# Altium integrated library Atmel Memory EEPROM.IntLib: 165 symbols (part 1 of 5)
Pins are listed as number, name and electrical type; pins without a type are passive.

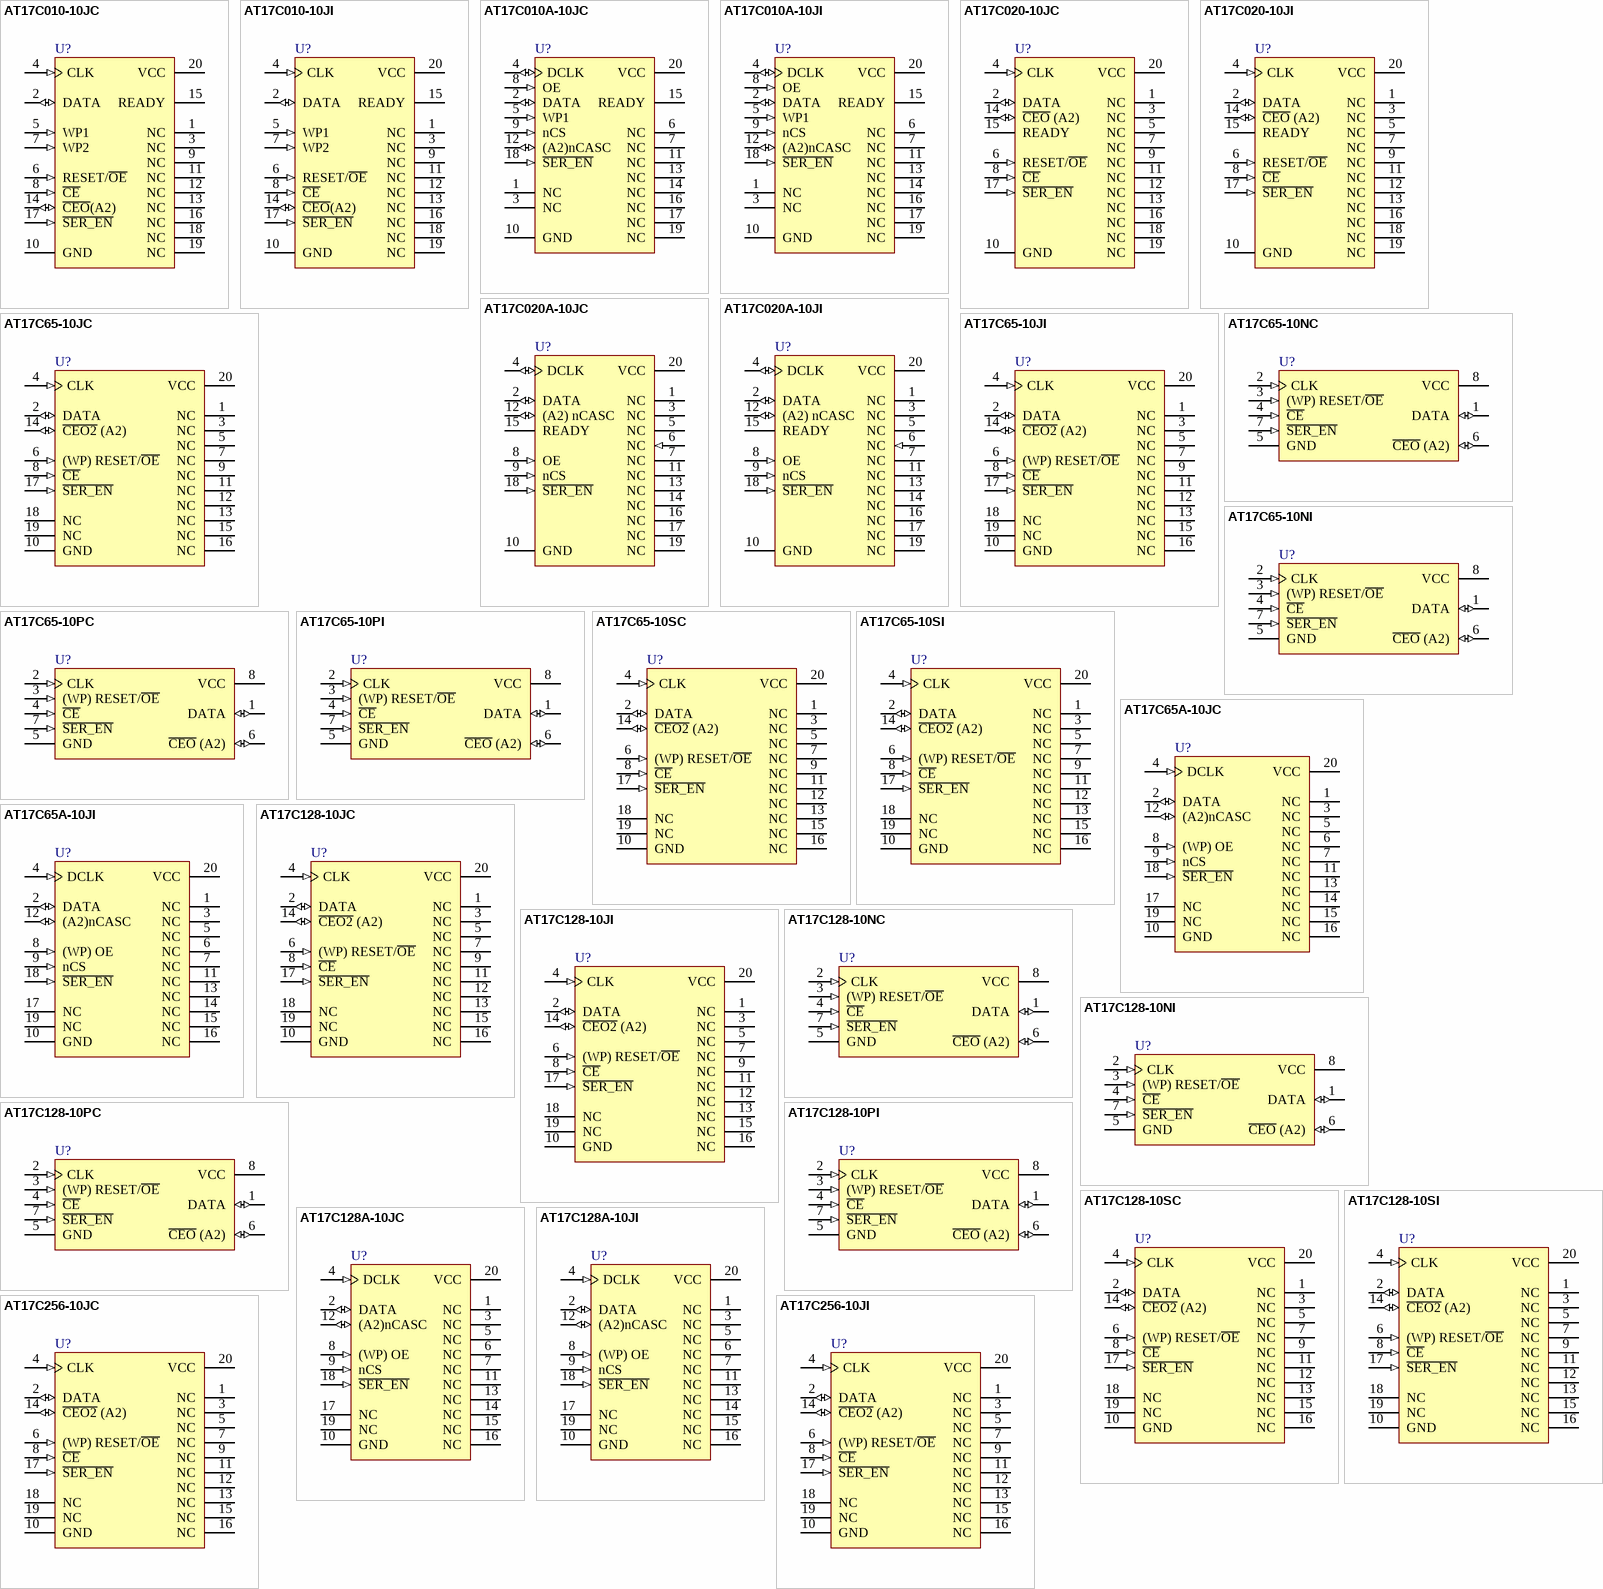
[diagram p0: symbols AT17C010-10JC to AT17C256-10JI]

## AT17C010-10JC
designator U?
FPGA Configuration EEPROM 1M Memory; ComponentAvailability: Not Recommended for New Design; Published: 17-Jul-2002; LatestRevisionDate: 13-Apr-2006; LatestRevisionNote: IPC-7351 Footprint Added.; DatasheetVersion: Rev. 0944B-07/99; PackageVersion: Aug-1999; PackageReference: 20J; Publisher: Altium Limited; PackageDescription: 20-Pin Leaded Chip Carrier 1.27 mm Pitch; Supplier 1: Digi-Key; Supplier Part Number 1: AT17C010-10JC-ND; Supplier 2: Mouser; Supplier Part Number 2: 556-AT17C01010JC; Code_JEDEC: MS-018-AA; Code_IPC: PLCC-20; ComponentLink1Description: Manufacturer Link; ComponentLink1URL: http://www.atmel.com/products/Config; ComponentLink2Description: Atmel.com Home; ComponentLink2URL: http://www.atmel.com
footprint 20J_N (Leaded Chip Carrier, 20-Leads, Body 9x9mm, Pitch 1.27mm, IPC Medium Density)
footprint 20J_L (Leaded Chip Carrier, 20-Leads, Body 9x9mm, Pitch 1.27mm, IPC High Density)
footprint 20J_M (Leaded Chip Carrier, 20-Leads, Body 9x9mm, Pitch 1.27mm, IPC Low Density)
pins: 1 NC, 2 DATA (io), 3 NC, 4 CLK (in), 5 WP1 (in), 6 RESET/~{OE} (in), 7 WP2 (in), 8 ~{CE} (in), 9 NC, 10 GND (power), 11 NC, 12 NC, 13 NC, 14 ~{CEO}(A2) (io), 15 READY (oc), 16 NC, 17 ~{SER_EN} (in), 18 NC, 19 NC, 20 VCC (power)

## AT17C010-10JI
designator U?
FPGA Configuration EEPROM 1M Memory; ComponentAvailability: Not Recommended for New Design; Published: 17-Jul-2002; LatestRevisionDate: 13-Apr-2006; LatestRevisionNote: IPC-7351 Footprint Added.; DatasheetVersion: Rev. 0944B-07/99; PackageVersion: Aug-1999; PackageReference: 20J; Publisher: Altium Limited; PackageDescription: 20-Pin Leaded Chip Carrier 1.27 mm Pitch; Supplier 1: Digi-Key; Supplier Part Number 1: AT17C010-10JI-ND; Code_JEDEC: MS-018-AA; Code_IPC: PLCC-20; ComponentLink1Description: Manufacturer Link; ComponentLink1URL: http://www.atmel.com/products/Config; ComponentLink2Description: Atmel.com Home; ComponentLink2URL: http://www.atmel.com
footprint 20J_N (Leaded Chip Carrier, 20-Leads, Body 9x9mm, Pitch 1.27mm, IPC Medium Density)
footprint 20J_L (Leaded Chip Carrier, 20-Leads, Body 9x9mm, Pitch 1.27mm, IPC High Density)
footprint 20J_M (Leaded Chip Carrier, 20-Leads, Body 9x9mm, Pitch 1.27mm, IPC Low Density)
pins: 1 NC, 2 DATA (io), 3 NC, 4 CLK (in), 5 WP1 (in), 6 RESET/~{OE} (in), 7 WP2 (in), 8 ~{CE} (in), 9 NC, 10 GND (power), 11 NC, 12 NC, 13 NC, 14 ~{CEO}(A2) (io), 15 READY (oc), 16 NC, 17 ~{SER_EN} (in), 18 NC, 19 NC, 20 VCC (power)

## AT17C010A-10JC
designator U?
FPGA Configuration EEPROM  1M Memory; ComponentAvailability: Not Recommended for New Design; Published: 17-Jul-2002; LatestRevisionDate: 13-Apr-2006; LatestRevisionNote: IPC-7351 Footprint Added.; DatasheetVersion: Rev. 0974B-07/99; PackageVersion: Aug-1999; PackageReference: 20J; Publisher: Altium Limited; PackageDescription: 20-Pin Leaded Chip Carrier 1.27 mm Pitch; Supplier 1: Digi-Key; Supplier Part Number 1: AT17C010A-10JC-ND; Code_JEDEC: MS-018-AA; Code_IPC: PLCC-20; ComponentLink1Description: Manufacturer Link; ComponentLink1URL: http://www.atmel.com/products/Config; ComponentLink2Description: Atmel.com Home; ComponentLink2URL: http://www.atmel.com
footprint 20J_N (Leaded Chip Carrier, 20-Leads, Body 9x9mm, Pitch 1.27mm, IPC Medium Density)
footprint 20J_L (Leaded Chip Carrier, 20-Leads, Body 9x9mm, Pitch 1.27mm, IPC High Density)
footprint 20J_M (Leaded Chip Carrier, 20-Leads, Body 9x9mm, Pitch 1.27mm, IPC Low Density)
pins: 1 NC, 2 DATA (io), 3 NC, 4 DCLK (io), 5 WP1 (in), 6 NC, 7 NC, 8 OE (in), 9 nCS (in), 10 GND (power), 11 NC, 12 (A2)nCASC (io), 13 NC, 14 NC, 15 READY (oc), 16 NC, 17 NC, 18 ~{SER_EN} (in), 19 NC, 20 VCC (power)

## AT17C010A-10JI
designator U?
FPGA Configuration EEPROM  1M Memory; ComponentAvailability: Not Recommended for New Design; Published: 17-Jul-2002; LatestRevisionDate: 13-Apr-2006; LatestRevisionNote: IPC-7351 Footprint Added.; DatasheetVersion: Rev. 0974B-07/99; PackageVersion: Aug-1999; PackageReference: 20J; Publisher: Altium Limited; PackageDescription: 20-Pin Leaded Chip Carrier 1.27 mm Pitch; Supplier 1: Digi-Key; Supplier Part Number 1: AT17C010A-10JI-ND; Code_JEDEC: MS-018-AA; Code_IPC: PLCC-20; ComponentLink1Description: Manufacturer Link; ComponentLink1URL: http://www.atmel.com/products/Config; ComponentLink2Description: Atmel.com Home; ComponentLink2URL: http://www.atmel.com
footprint 20J_N (Leaded Chip Carrier, 20-Leads, Body 9x9mm, Pitch 1.27mm, IPC Medium Density)
footprint 20J_L (Leaded Chip Carrier, 20-Leads, Body 9x9mm, Pitch 1.27mm, IPC High Density)
footprint 20J_M (Leaded Chip Carrier, 20-Leads, Body 9x9mm, Pitch 1.27mm, IPC Low Density)
pins: 1 NC, 2 DATA (io), 3 NC, 4 DCLK (io), 5 WP1 (in), 6 NC, 7 NC, 8 OE (in), 9 nCS (in), 10 GND (power), 11 NC, 12 (A2)nCASC (io), 13 NC, 14 NC, 15 READY (oc), 16 NC, 17 NC, 18 ~{SER_EN} (in), 19 NC, 20 VCC (power)

## AT17C020-10JC
designator U?
FPGA Configuration EEPROM 2M Memory; ComponentAvailability: Not Recommended for New Design; Published: 17-Jul-2002; LatestRevisionDate: 13-Apr-2006; LatestRevisionNote: IPC-7351 Footprint Added.; DatasheetVersion: Rev. 1239B-05/99; PackageVersion: Aug-1999; PackageReference: 20J; Publisher: Altium Limited; PackageDescription: 20-Pin Leaded Chip Carrier 1.27 mm Pitch; Supplier 1: Digi-Key; Supplier Part Number 1: AT17C020-10JC-ND; Code_JEDEC: MS-018-AA; Code_IPC: PLCC-20; ComponentLink1Description: Manufacturer Link; ComponentLink1URL: http://www.atmel.com/products/Config; ComponentLink2Description: Atmel.com Home; ComponentLink2URL: http://www.atmel.com
footprint 20J_N (Leaded Chip Carrier, 20-Leads, Body 9x9mm, Pitch 1.27mm, IPC Medium Density)
footprint 20J_L (Leaded Chip Carrier, 20-Leads, Body 9x9mm, Pitch 1.27mm, IPC High Density)
footprint 20J_M (Leaded Chip Carrier, 20-Leads, Body 9x9mm, Pitch 1.27mm, IPC Low Density)
pins: 1 NC, 2 DATA (io), 3 NC, 4 CLK (in), 5 NC, 6 RESET/~{OE} (in), 7 NC, 8 ~{CE} (in), 9 NC, 10 GND (power), 11 NC, 12 NC, 13 NC, 14 ~{CEO} (A2) (io), 15 READY (oc), 16 NC, 17 ~{SER_EN} (in), 18 NC, 19 NC, 20 VCC (power)

## AT17C020-10JI
designator U?
FPGA Configuration EEPROM 2M Memory; ComponentAvailability: Not Recommended for New Design; Published: 17-Jul-2002; LatestRevisionDate: 13-Apr-2006; LatestRevisionNote: IPC-7351 Footprint Added.; DatasheetVersion: Rev. 1239B-05/99; PackageVersion: Aug-1999; PackageReference: 20J; Publisher: Altium Limited; PackageDescription: 20-Pin Leaded Chip Carrier 1.27 mm Pitch; Supplier 1: Digi-Key; Supplier Part Number 1: AT17C020-10JI-ND; Code_JEDEC: MS-018-AA; Code_IPC: PLCC-20; ComponentLink1Description: Manufacturer Link; ComponentLink1URL: http://www.atmel.com/products/Config; ComponentLink2Description: Atmel.com Home; ComponentLink2URL: http://www.atmel.com
footprint 20J_N (Leaded Chip Carrier, 20-Leads, Body 9x9mm, Pitch 1.27mm, IPC Medium Density)
footprint 20J_L (Leaded Chip Carrier, 20-Leads, Body 9x9mm, Pitch 1.27mm, IPC High Density)
footprint 20J_M (Leaded Chip Carrier, 20-Leads, Body 9x9mm, Pitch 1.27mm, IPC Low Density)
pins: 1 NC, 2 DATA (io), 3 NC, 4 CLK (in), 5 NC, 6 RESET/~{OE} (in), 7 NC, 8 ~{CE} (in), 9 NC, 10 GND (power), 11 NC, 12 NC, 13 NC, 14 ~{CEO} (A2) (io), 15 READY (oc), 16 NC, 17 ~{SER_EN} (in), 18 NC, 19 NC, 20 VCC (power)

## AT17C020A-10JC
designator U?
FPGA Configuration EEPROM 2M Memory; ComponentAvailability: Not Recommended for New Design; Published: 17-Jul-2002; LatestRevisionDate: 13-Apr-2006; LatestRevisionNote: IPC-7351 Footprint Added.; DatasheetVersion: Rev. 1270A-05/00; PackageVersion: Aug-1999; PackageReference: 20J; Publisher: Altium Limited; PackageDescription: 20-Pin Leaded Chip Carrier 1.27 mm Pitch; Supplier 1: Digi-Key; Supplier Part Number 1: AT17C020A-10JC-ND; Code_JEDEC: MS-018-AA; Code_IPC: PLCC-20; ComponentLink1Description: Manufacturer Link; ComponentLink1URL: http://www.atmel.com/products/Config; ComponentLink2Description: Atmel.com Home; ComponentLink2URL: http://www.atmel.com
footprint 20J_N (Leaded Chip Carrier, 20-Leads, Body 9x9mm, Pitch 1.27mm, IPC Medium Density)
footprint 20J_L (Leaded Chip Carrier, 20-Leads, Body 9x9mm, Pitch 1.27mm, IPC High Density)
footprint 20J_M (Leaded Chip Carrier, 20-Leads, Body 9x9mm, Pitch 1.27mm, IPC Low Density)
pins: 1 NC, 2 DATA (io), 3 NC, 4 DCLK (io), 5 NC, 6 NC (in), 7 NC, 8 OE (in), 9 nCS (in), 10 GND (power), 11 NC, 12 (A2) nCASC (io), 13 NC, 14 NC, 15 READY (oc), 16 NC, 17 NC, 18 ~{SER_EN} (in), 19 NC, 20 VCC (power)

## AT17C020A-10JI
designator U?
FPGA Configuration EEPROM 2M Memory; ComponentAvailability: Not Recommended for New Design; Published: 17-Jul-2002; LatestRevisionDate: 13-Apr-2006; LatestRevisionNote: IPC-7351 Footprint Added.; DatasheetVersion: Rev. 1270A-05/00; PackageVersion: Aug-1999; PackageReference: 20J; Publisher: Altium Limited; PackageDescription: 20-Pin Leaded Chip Carrier 1.27 mm Pitch; Supplier 1: Digi-Key; Supplier Part Number 1: AT17C020A-10JI-ND; Code_JEDEC: MS-018-AA; Code_IPC: PLCC-20; ComponentLink1Description: Manufacturer Link; ComponentLink1URL: http://www.atmel.com/products/Config; ComponentLink2Description: Atmel.com Home; ComponentLink2URL: http://www.atmel.com
footprint 20J_N (Leaded Chip Carrier, 20-Leads, Body 9x9mm, Pitch 1.27mm, IPC Medium Density)
footprint 20J_L (Leaded Chip Carrier, 20-Leads, Body 9x9mm, Pitch 1.27mm, IPC High Density)
footprint 20J_M (Leaded Chip Carrier, 20-Leads, Body 9x9mm, Pitch 1.27mm, IPC Low Density)
pins: 1 NC, 2 DATA (io), 3 NC, 4 DCLK (io), 5 NC, 6 NC (in), 7 NC, 8 OE (in), 9 nCS (in), 10 GND (power), 11 NC, 12 (A2) nCASC (io), 13 NC, 14 NC, 15 READY (oc), 16 NC, 17 NC, 18 ~{SER_EN} (in), 19 NC, 20 VCC (power)

## AT17C65-10JC
designator U?
FPGA Configuration EEPROM 64K Memory; ComponentAvailability: Not Recommended for New Design; Published: 17-Jul-2002; LatestRevisionDate: 13-Apr-2006; LatestRevisionNote: IPC-7351 Footprint Added.; DatasheetVersion: Rev. 1636B-05/00; PackageVersion: Aug-1999; PackageReference: 20J; Publisher: Altium Limited; PackageDescription: 20-Pin Leaded Chip Carrier 1.27 mm Pitch; Supplier 1: Digi-Key; Supplier Part Number 1: AT17C65-10JC-ND; Supplier 2: Mouser; Supplier Part Number 2: 556-AT17C6510JC; Code_JEDEC: MS-018-AA; Code_IPC: PLCC-20; ComponentLink1Description: Manufacturer Link; ComponentLink1URL: http://www.atmel.com/products/Config; ComponentLink2Description: Atmel.com Home; ComponentLink2URL: http://www.atmel.com
footprint 20J_N (Leaded Chip Carrier, 20-Leads, Body 9x9mm, Pitch 1.27mm, IPC Medium Density)
footprint 20J_L (Leaded Chip Carrier, 20-Leads, Body 9x9mm, Pitch 1.27mm, IPC High Density)
footprint 20J_M (Leaded Chip Carrier, 20-Leads, Body 9x9mm, Pitch 1.27mm, IPC Low Density)
pins: 1 NC, 2 DATA (io), 3 NC, 4 CLK (in), 5 NC, 6 (WP) RESET/~{OE} (in), 7 NC, 8 ~{CE} (in), 9 NC, 10 GND (power), 11 NC, 12 NC, 13 NC, 14 ~{CEO2} (A2) (io), 15 NC, 16 NC, 17 ~{SER_EN} (in), 18 NC, 19 NC, 20 VCC (power)

## AT17C65-10JI
designator U?
FPGA Configuration EEPROM 64K Memory; ComponentAvailability: Not Recommended for New Design; Published: 17-Jul-2002; LatestRevisionDate: 13-Apr-2006; LatestRevisionNote: IPC-7351 Footprint Added.; DatasheetVersion: Rev. 1636B-05/00; PackageVersion: Aug-1999; PackageReference: 20J; Publisher: Altium Limited; PackageDescription: 20-Pin Leaded Chip Carrier 1.27 mm Pitch; Supplier 1: Digi-Key; Supplier Part Number 1: AT17C65-10JI-ND; Supplier 2: Mouser; Supplier Part Number 2: 556-AT17C65-10JI; Code_JEDEC: MS-018-AA; Code_IPC: PLCC-20; ComponentLink1Description: Manufacturer Link; ComponentLink1URL: http://www.atmel.com/products/Config; ComponentLink2Description: Atmel.com Home; ComponentLink2URL: http://www.atmel.com
footprint 20J_N (Leaded Chip Carrier, 20-Leads, Body 9x9mm, Pitch 1.27mm, IPC Medium Density)
footprint 20J_L (Leaded Chip Carrier, 20-Leads, Body 9x9mm, Pitch 1.27mm, IPC High Density)
footprint 20J_M (Leaded Chip Carrier, 20-Leads, Body 9x9mm, Pitch 1.27mm, IPC Low Density)
pins: 1 NC, 2 DATA (io), 3 NC, 4 CLK (in), 5 NC, 6 (WP) RESET/~{OE} (in), 7 NC, 8 ~{CE} (in), 9 NC, 10 GND (power), 11 NC, 12 NC, 13 NC, 14 ~{CEO2} (A2) (io), 15 NC, 16 NC, 17 ~{SER_EN} (in), 18 NC, 19 NC, 20 VCC (power)

## AT17C65-10NC
designator U?
FPGA Configuration EEPROM 64K Memory; ComponentAvailability: Not Recommended for New Design; Published: 17-Jul-2002; LatestRevisionDate: 13-Apr-2006; LatestRevisionNote: IPC-7351 Footprint Added.; DatasheetVersion: Rev. 1636B-05/00; PackageVersion: revC, Mar-2005; PackageReference: 8S1; Publisher: Altium Limited; PackageDescription: 8-Lead (0.150" Wide Body), Plastic Gull Wing Small Outline (JEDEC SOIC); Supplier 1: Digi-Key; Supplier Part Number 1: AT17C65-10NC-ND; Supplier 2: Mouser; Supplier Part Number 2: 556-AT17C65-10NC; Code_JEDEC: MS-012-AA; Code_IPC: SOIC127P600-8; ComponentLink1Description: Manufacturer Link; ComponentLink1URL: http://www.atmel.com/products/Config; ComponentLink2Description: Atmel.com Home; ComponentLink2URL: http://www.atmel.com
footprint 8S1_N (SOIC, 8-Leads, Body 4.9x3.9mm, Pitch 1.27mm, IPC Medium Density)
footprint 8S1_L (SOIC, 8-Leads, Body 4.9x3.9mm, Pitch 1.27mm, IPC High Density)
footprint 8S1_M (SOIC, 8-Leads, Body 4.9x3.9mm, Pitch 1.27mm, IPC Low Density)
pins: 1 DATA (io), 2 CLK (in), 3 (WP) RESET/~{OE} (in), 4 ~{CE} (in), 5 GND (power), 6 ~{CEO} (A2) (io), 7 ~{SER_EN} (in), 8 VCC (power)

## AT17C65-10NI
designator U?
FPGA Configuration EEPROM 64K Memory; ComponentAvailability: Not Recommended for New Design; Published: 17-Jul-2002; LatestRevisionDate: 13-Apr-2006; LatestRevisionNote: IPC-7351 Footprint Added.; DatasheetVersion: Rev. 1636B-05/00; PackageVersion: revC, Mar-2005; PackageReference: 8S1; Publisher: Altium Limited; PackageDescription: 8-Lead (0.150" Wide Body), Plastic Gull Wing Small Outline (JEDEC SOIC); Supplier 1: Digi-Key; Supplier Part Number 1: AT17C65-10NI-ND; Supplier 2: Mouser; Supplier Part Number 2: 556-AT17C65-10NI; Code_JEDEC: MS-012-AA; Code_IPC: SOIC127P600-8; ComponentLink1Description: Manufacturer Link; ComponentLink1URL: http://www.atmel.com/products/Config; ComponentLink2Description: Atmel.com Home; ComponentLink2URL: http://www.atmel.com
footprint 8S1_N (SOIC, 8-Leads, Body 4.9x3.9mm, Pitch 1.27mm, IPC Medium Density)
footprint 8S1_L (SOIC, 8-Leads, Body 4.9x3.9mm, Pitch 1.27mm, IPC High Density)
footprint 8S1_M (SOIC, 8-Leads, Body 4.9x3.9mm, Pitch 1.27mm, IPC Low Density)
pins: 1 DATA (io), 2 CLK (in), 3 (WP) RESET/~{OE} (in), 4 ~{CE} (in), 5 GND (power), 6 ~{CEO} (A2) (io), 7 ~{SER_EN} (in), 8 VCC (power)

## AT17C65-10PC
designator U?
FPGA Configuration EEPROM 64K Memory; ComponentAvailability: Not Recommended for New Design; Published: 17-Jul-2002; LatestRevisionDate: 04-Mar-2005; LatestRevisionNote: Stylized 3D Model Added.; DatasheetVersion: Rev. 1636B-05/00; PackageVersion: revB, Jan-2002; PackageReference: 8P3; Publisher: Altium Limited; PackageDescription: 8-Lead, 0.300" Wide Body, Plastic Dual In-Line Package (PDIP); Supplier 1: Digi-Key; Supplier Part Number 1: AT17C65-10PC-ND; Supplier 2: Mouser; Supplier Part Number 2: 556-AT17C6510PC; Code_JEDEC: MS-001-BA; ComponentLink1Description: Manufacturer Link; ComponentLink1URL: http://www.atmel.com/products/Config; ComponentLink2Description: Atmel.com Home; ComponentLink2URL: http://www.atmel.com
footprint 8P3 (DIP, 8-Leads, Row Spacing 7.62mm, Pitch 2.54mm, Body 9.59x6.61mm)
pins: 1 DATA (io), 2 CLK (in), 3 (WP) RESET/~{OE} (in), 4 ~{CE} (in), 5 GND (power), 6 ~{CEO} (A2) (io), 7 ~{SER_EN} (in), 8 VCC (power)

## AT17C65-10PI
designator U?
FPGA Configuration EEPROM 64K Memory; ComponentAvailability: Not Recommended for New Design; Published: 17-Jul-2002; LatestRevisionDate: 04-Mar-2005; LatestRevisionNote: Stylized 3D Model Added.; DatasheetVersion: Rev. 1636B-05/00; PackageVersion: revB, Jan-2002; PackageReference: 8P3; Publisher: Altium Limited; PackageDescription: 8-Lead, 0.300" Wide Body, Plastic Dual In-Line Package (PDIP); Supplier 1: Digi-Key; Supplier Part Number 1: AT17C65-10PI-ND; Supplier 2: Mouser; Supplier Part Number 2: 556-AT17C65-10PI; Code_JEDEC: MS-001-BA; ComponentLink1Description: Manufacturer Link; ComponentLink1URL: http://www.atmel.com/products/Config; ComponentLink2Description: Atmel.com Home; ComponentLink2URL: http://www.atmel.com
footprint 8P3 (DIP, 8-Leads, Row Spacing 7.62mm, Pitch 2.54mm, Body 9.59x6.61mm)
pins: 1 DATA (io), 2 CLK (in), 3 (WP) RESET/~{OE} (in), 4 ~{CE} (in), 5 GND (power), 6 ~{CEO} (A2) (io), 7 ~{SER_EN} (in), 8 VCC (power)

## AT17C65-10SC
designator U?
FPGA Configuration EEPROM 64K Memory; ComponentAvailability: Not Recommended for New Design; Published: 17-Jul-2002; LatestRevisionDate: 13-Apr-2006; LatestRevisionNote: IPC-7351 Footprint Added.; DatasheetVersion: Rev. 1636B-05/00; PackageVersion: revA, Jan-2002; PackageReference: 20S; Publisher: Altium Limited; PackageDescription: 20-lead, 0.300" Wide Body, Plastic Gull Wing Small Outline Package (SOIC); Supplier 1: Digi-Key; Supplier Part Number 1: AT17C65-10SC-ND; Code_JEDEC: MS-013-AC; Code_IPC: SOIC127P1030-20; ComponentLink1Description: Manufacturer Link; ComponentLink1URL: http://www.atmel.com/products/Config; ComponentLink2Description: Atmel.com Home; ComponentLink2URL: http://www.atmel.com
footprint 20S_N (SOIC, 20-Leads, Body 12.8x7.5mm, Pitch 1.27mm, IPC Medium Density)
footprint 20S_L (SOIC, 20-Leads, Body 12.8x7.5mm, Pitch 1.27mm, IPC High Density)
footprint 20S_M (SOIC, 20-Leads, Body 12.8x7.5mm, Pitch 1.27mm, IPC Low Density)
pins: 1 NC, 2 DATA (io), 3 NC, 4 CLK (in), 5 NC, 6 (WP) RESET/~{OE} (in), 7 NC, 8 ~{CE} (in), 9 NC, 10 GND (power), 11 NC, 12 NC, 13 NC, 14 ~{CEO2} (A2) (io), 15 NC, 16 NC, 17 ~{SER_EN} (in), 18 NC, 19 NC, 20 VCC (power)

## AT17C65-10SI
designator U?
FPGA Configuration EEPROM 64K Memory; ComponentAvailability: Not Recommended for New Design; Published: 17-Jul-2002; LatestRevisionDate: 13-Apr-2006; LatestRevisionNote: IPC-7351 Footprint Added.; DatasheetVersion: Rev. 1636B-05/00; PackageVersion: revA, Jan-2002; PackageReference: 20S; Publisher: Altium Limited; PackageDescription: 20-lead, 0.300" Wide Body, Plastic Gull Wing Small Outline Package (SOIC); Supplier 1: Digi-Key; Supplier Part Number 1: AT17C65-10SI-ND; Supplier 2: Mouser; Supplier Part Number 2: 556-AT17C65-10SI; Code_JEDEC: MS-013-AC; Code_IPC: SOIC127P1030-20; ComponentLink1Description: Manufacturer Link; ComponentLink1URL: http://www.atmel.com/products/Config; ComponentLink2Description: Atmel.com Home; ComponentLink2URL: http://www.atmel.com
footprint 20S_N (SOIC, 20-Leads, Body 12.8x7.5mm, Pitch 1.27mm, IPC Medium Density)
footprint 20S_L (SOIC, 20-Leads, Body 12.8x7.5mm, Pitch 1.27mm, IPC High Density)
footprint 20S_M (SOIC, 20-Leads, Body 12.8x7.5mm, Pitch 1.27mm, IPC Low Density)
pins: 1 NC, 2 DATA (io), 3 NC, 4 CLK (in), 5 NC, 6 (WP) RESET/~{OE} (in), 7 NC, 8 ~{CE} (in), 9 NC, 10 GND (power), 11 NC, 12 NC, 13 NC, 14 ~{CEO2} (A2) (io), 15 NC, 16 NC, 17 ~{SER_EN} (in), 18 NC, 19 NC, 20 VCC (power)

## AT17C65A-10JC
designator U?
FPGA Configuration EEPROM 64K Memory; ComponentAvailability: Not Recommended for New Design; Published: 17-Jul-2002; LatestRevisionDate: 13-Apr-2006; LatestRevisionNote: IPC-7351 Footprint Added.; DatasheetVersion: Rev. 0996B-10/99; PackageVersion: Aug-1999; PackageReference: 20J; Publisher: Altium Limited; PackageDescription: 20-Pin Leaded Chip Carrier 1.27 mm Pitch; Supplier 1: Digi-Key; Supplier Part Number 1: AT17C65A-10JC-ND; Code_JEDEC: MS-018-AA; Code_IPC: PLCC-20; ComponentLink1Description: Manufacturer Link; ComponentLink1URL: http://www.atmel.com/products/Config; ComponentLink2Description: Atmel.com Home; ComponentLink2URL: http://www.atmel.com
footprint 20J_N (Leaded Chip Carrier, 20-Leads, Body 9x9mm, Pitch 1.27mm, IPC Medium Density)
footprint 20J_L (Leaded Chip Carrier, 20-Leads, Body 9x9mm, Pitch 1.27mm, IPC High Density)
footprint 20J_M (Leaded Chip Carrier, 20-Leads, Body 9x9mm, Pitch 1.27mm, IPC Low Density)
pins: 1 NC, 2 DATA (io), 3 NC, 4 DCLK (in), 5 NC, 6 NC, 7 NC, 8 (WP) OE (in), 9 nCS (in), 10 GND (power), 11 NC, 12 (A2)nCASC (io), 13 NC, 14 NC, 15 NC, 16 NC, 17 NC, 18 ~{SER_EN} (in), 19 NC, 20 VCC (power)

## AT17C65A-10JI
designator U?
FPGA Configuration EEPROM 64K Memory; ComponentAvailability: Not Recommended for New Design; Published: 17-Jul-2002; LatestRevisionDate: 13-Apr-2006; LatestRevisionNote: IPC-7351 Footprint Added.; DatasheetVersion: Rev. 0996B-10/99; PackageVersion: Aug-1999; PackageReference: 20J; Publisher: Altium Limited; PackageDescription: 20-Pin Leaded Chip Carrier 1.27 mm Pitch; Supplier 1: Digi-Key; Supplier Part Number 1: AT17C65A-10JI-ND; Supplier 2: Mouser; Supplier Part Number 2: 556-AT17C65A-10JI; Code_JEDEC: MS-018-AA; Code_IPC: PLCC-20; ComponentLink1Description: Manufacturer Link; ComponentLink1URL: http://www.atmel.com/products/Config; ComponentLink2Description: Atmel.com Home; ComponentLink2URL: http://www.atmel.com
footprint 20J_N (Leaded Chip Carrier, 20-Leads, Body 9x9mm, Pitch 1.27mm, IPC Medium Density)
footprint 20J_L (Leaded Chip Carrier, 20-Leads, Body 9x9mm, Pitch 1.27mm, IPC High Density)
footprint 20J_M (Leaded Chip Carrier, 20-Leads, Body 9x9mm, Pitch 1.27mm, IPC Low Density)
pins: 1 NC, 2 DATA (io), 3 NC, 4 DCLK (in), 5 NC, 6 NC, 7 NC, 8 (WP) OE (in), 9 nCS (in), 10 GND (power), 11 NC, 12 (A2)nCASC (io), 13 NC, 14 NC, 15 NC, 16 NC, 17 NC, 18 ~{SER_EN} (in), 19 NC, 20 VCC (power)

## AT17C128-10JC
designator U?
FPGA Configuration EEPROM 128K Memory; ComponentAvailability: Not Recommended for New Design; Published: 17-Jul-2002; LatestRevisionDate: 13-Apr-2006; LatestRevisionNote: IPC-7351 Footprint Added.; DatasheetVersion: Rev. 1636B-05/00; PackageVersion: Aug-1999; PackageReference: 20J; Publisher: Altium Limited; PackageDescription: 20-Pin Leaded Chip Carrier 1.27 mm Pitch; Supplier 1: Digi-Key; Supplier Part Number 1: AT17C128-10JC-ND; Supplier 2: Mouser; Supplier Part Number 2: 556-AT17C12810JC; Code_JEDEC: MS-018-AA; Code_IPC: PLCC-20; ComponentLink1Description: Manufacturer Link; ComponentLink1URL: http://www.atmel.com/products/Config; ComponentLink2Description: Atmel.com Home; ComponentLink2URL: http://www.atmel.com
footprint 20J_N (Leaded Chip Carrier, 20-Leads, Body 9x9mm, Pitch 1.27mm, IPC Medium Density)
footprint 20J_L (Leaded Chip Carrier, 20-Leads, Body 9x9mm, Pitch 1.27mm, IPC High Density)
footprint 20J_M (Leaded Chip Carrier, 20-Leads, Body 9x9mm, Pitch 1.27mm, IPC Low Density)
pins: 1 NC, 2 DATA (io), 3 NC, 4 CLK (in), 5 NC, 6 (WP) RESET/~{OE} (in), 7 NC, 8 ~{CE} (in), 9 NC, 10 GND (power), 11 NC, 12 NC, 13 NC, 14 ~{CEO2} (A2) (io), 15 NC, 16 NC, 17 ~{SER_EN} (in), 18 NC, 19 NC, 20 VCC (power)

## AT17C128-10JI
designator U?
FPGA Configuration EEPROM 128K Memory; ComponentAvailability: Not Recommended for New Design; Published: 17-Jul-2002; LatestRevisionDate: 13-Apr-2006; LatestRevisionNote: IPC-7351 Footprint Added.; DatasheetVersion: Rev. 1636B-05/00; PackageVersion: Aug-1999; PackageReference: 20J; Publisher: Altium Limited; PackageDescription: 20-Pin Leaded Chip Carrier 1.27 mm Pitch; Supplier 1: Digi-Key; Supplier Part Number 1: AT17C128-10JI-ND; Supplier 2: Mouser; Supplier Part Number 2: 556-AT17C128-10JI; Code_JEDEC: MS-018-AA; Code_IPC: PLCC-20; ComponentLink1Description: Manufacturer Link; ComponentLink1URL: http://www.atmel.com/products/Config; ComponentLink2Description: Atmel.com Home; ComponentLink2URL: http://www.atmel.com
footprint 20J_N (Leaded Chip Carrier, 20-Leads, Body 9x9mm, Pitch 1.27mm, IPC Medium Density)
footprint 20J_L (Leaded Chip Carrier, 20-Leads, Body 9x9mm, Pitch 1.27mm, IPC High Density)
footprint 20J_M (Leaded Chip Carrier, 20-Leads, Body 9x9mm, Pitch 1.27mm, IPC Low Density)
pins: 1 NC, 2 DATA (io), 3 NC, 4 CLK (in), 5 NC, 6 (WP) RESET/~{OE} (in), 7 NC, 8 ~{CE} (in), 9 NC, 10 GND (power), 11 NC, 12 NC, 13 NC, 14 ~{CEO2} (A2) (io), 15 NC, 16 NC, 17 ~{SER_EN} (in), 18 NC, 19 NC, 20 VCC (power)

## AT17C128-10NC
designator U?
FPGA Configuration EEPROM 128K Memory; ComponentAvailability: Not Recommended for New Design; Published: 17-Jul-2002; LatestRevisionDate: 13-Apr-2006; LatestRevisionNote: IPC-7351 Footprint Added.; DatasheetVersion: Rev. 1636B-05/00; PackageVersion: revC, Mar-2005; PackageReference: 8S1; Publisher: Altium Limited; PackageDescription: 8-Lead (0.150" Wide Body), Plastic Gull Wing Small Outline (JEDEC SOIC); Supplier 1: Digi-Key; Supplier Part Number 1: AT17C128-10NC-ND; Supplier 2: Mouser; Supplier Part Number 2: 556-AT17C128-10NC; Code_JEDEC: MS-012-AA; Code_IPC: SOIC127P600-8; ComponentLink1Description: Manufacturer Link; ComponentLink1URL: http://www.atmel.com/products/Config; ComponentLink2Description: Atmel.com Home; ComponentLink2URL: http://www.atmel.com
footprint 8S1_N (SOIC, 8-Leads, Body 4.9x3.9mm, Pitch 1.27mm, IPC Medium Density)
footprint 8S1_L (SOIC, 8-Leads, Body 4.9x3.9mm, Pitch 1.27mm, IPC High Density)
footprint 8S1_M (SOIC, 8-Leads, Body 4.9x3.9mm, Pitch 1.27mm, IPC Low Density)
pins: 1 DATA (io), 2 CLK (in), 3 (WP) RESET/~{OE} (in), 4 ~{CE} (in), 5 GND (power), 6 ~{CEO} (A2) (io), 7 ~{SER_EN} (in), 8 VCC (power)

## AT17C128-10NI
designator U?
FPGA Configuration EEPROM 128K Memory; ComponentAvailability: Not Recommended for New Design; Published: 17-Jul-2002; LatestRevisionDate: 13-Apr-2006; LatestRevisionNote: IPC-7351 Footprint Added.; DatasheetVersion: Rev. 1636B-05/00; PackageVersion: revC, Mar-2005; PackageReference: 8S1; Publisher: Altium Limited; PackageDescription: 8-Lead (0.150" Wide Body), Plastic Gull Wing Small Outline (JEDEC SOIC); Supplier 1: Digi-Key; Supplier Part Number 1: AT17C128-10NI-ND; Supplier 2: Mouser; Supplier Part Number 2: 556-AT17C12810NI; Code_JEDEC: MS-012-AA; Code_IPC: SOIC127P600-8; ComponentLink1Description: Manufacturer Link; ComponentLink1URL: http://www.atmel.com/products/Config; ComponentLink2Description: Atmel.com Home; ComponentLink2URL: http://www.atmel.com
footprint 8S1_N (SOIC, 8-Leads, Body 4.9x3.9mm, Pitch 1.27mm, IPC Medium Density)
footprint 8S1_L (SOIC, 8-Leads, Body 4.9x3.9mm, Pitch 1.27mm, IPC High Density)
footprint 8S1_M (SOIC, 8-Leads, Body 4.9x3.9mm, Pitch 1.27mm, IPC Low Density)
pins: 1 DATA (io), 2 CLK (in), 3 (WP) RESET/~{OE} (in), 4 ~{CE} (in), 5 GND (power), 6 ~{CEO} (A2) (io), 7 ~{SER_EN} (in), 8 VCC (power)

## AT17C128-10PC
designator U?
FPGA Configuration EEPROM 128K Memory; ComponentAvailability: Not Recommended for New Design; Published: 17-Jul-2002; LatestRevisionDate: 04-Mar-2005; LatestRevisionNote: Stylized 3D Model Added.; DatasheetVersion: Rev. 1636B-05/00; PackageVersion: revB, Jan-2002; PackageReference: 8P3; Publisher: Altium Limited; PackageDescription: 8-Lead, 0.300" Wide Body, Plastic Dual In-Line Package (PDIP); Supplier 1: Digi-Key; Supplier Part Number 1: AT17C128-10PC-ND; Supplier 2: Mouser; Supplier Part Number 2: 556-AT17C12810PC; Code_JEDEC: MS-001-BA; ComponentLink1Description: Manufacturer Link; ComponentLink1URL: http://www.atmel.com/products/Config; ComponentLink2Description: Atmel.com Home; ComponentLink2URL: http://www.atmel.com
footprint 8P3 (DIP, 8-Leads, Row Spacing 7.62mm, Pitch 2.54mm, Body 9.59x6.61mm)
pins: 1 DATA (io), 2 CLK (in), 3 (WP) RESET/~{OE} (in), 4 ~{CE} (in), 5 GND (power), 6 ~{CEO} (A2) (io), 7 ~{SER_EN} (in), 8 VCC (power)

## AT17C128-10PI
designator U?
FPGA Configuration EEPROM 128K Memory; ComponentAvailability: Not Recommended for New Design; Published: 17-Jul-2002; LatestRevisionDate: 04-Mar-2005; LatestRevisionNote: Stylized 3D Model Added.; DatasheetVersion: Rev. 1636B-05/00; PackageVersion: revB, Jan-2002; PackageReference: 8P3; Publisher: Altium Limited; PackageDescription: 8-Lead, 0.300" Wide Body, Plastic Dual In-Line Package (PDIP); Supplier 1: Digi-Key; Supplier Part Number 1: AT17C128-10PI-ND; Code_JEDEC: MS-001-BA; ComponentLink1Description: Manufacturer Link; ComponentLink1URL: http://www.atmel.com/products/Config; ComponentLink2Description: Atmel.com Home; ComponentLink2URL: http://www.atmel.com
footprint 8P3 (DIP, 8-Leads, Row Spacing 7.62mm, Pitch 2.54mm, Body 9.59x6.61mm)
pins: 1 DATA (io), 2 CLK (in), 3 (WP) RESET/~{OE} (in), 4 ~{CE} (in), 5 GND (power), 6 ~{CEO} (A2) (io), 7 ~{SER_EN} (in), 8 VCC (power)

## AT17C128-10SC
designator U?
FPGA Configuration EEPROM 128K Memory; ComponentAvailability: Not Recommended for New Design; Published: 17-Jul-2002; LatestRevisionDate: 13-Apr-2006; LatestRevisionNote: IPC-7351 Footprint Added.; DatasheetVersion: Rev. 1636B-05/00; PackageVersion: revA, Jan-2002; PackageReference: 20S; Publisher: Altium Limited; PackageDescription: 20-lead, 0.300" Wide Body, Plastic Gull Wing Small Outline Package (SOIC); Supplier 1: Digi-Key; Supplier Part Number 1: AT17C128-10SC-ND; Code_JEDEC: MS-013-AC; Code_IPC: SOIC127P1030-20; ComponentLink1Description: Manufacturer Link; ComponentLink1URL: http://www.atmel.com/products/Config; ComponentLink2Description: Atmel.com Home; ComponentLink2URL: http://www.atmel.com
footprint 20S_N (SOIC, 20-Leads, Body 12.8x7.5mm, Pitch 1.27mm, IPC Medium Density)
footprint 20S_L (SOIC, 20-Leads, Body 12.8x7.5mm, Pitch 1.27mm, IPC High Density)
footprint 20S_M (SOIC, 20-Leads, Body 12.8x7.5mm, Pitch 1.27mm, IPC Low Density)
pins: 1 NC, 2 DATA (io), 3 NC, 4 CLK (in), 5 NC, 6 (WP) RESET/~{OE} (in), 7 NC, 8 ~{CE} (in), 9 NC, 10 GND (power), 11 NC, 12 NC, 13 NC, 14 ~{CEO2} (A2) (io), 15 NC, 16 NC, 17 ~{SER_EN} (in), 18 NC, 19 NC, 20 VCC (power)

## AT17C128-10SI
designator U?
FPGA Configuration EEPROM 128K Memory; ComponentAvailability: Not Recommended for New Design; Published: 17-Jul-2002; LatestRevisionDate: 13-Apr-2006; LatestRevisionNote: IPC-7351 Footprint Added.; DatasheetVersion: Rev. 1636B-05/00; PackageVersion: revA, Jan-2002; PackageReference: 20S; Publisher: Altium Limited; PackageDescription: 20-lead, 0.300" Wide Body, Plastic Gull Wing Small Outline Package (SOIC); Supplier 1: Digi-Key; Supplier Part Number 1: AT17C128-10SI-ND; Code_JEDEC: MS-013-AC; Code_IPC: SOIC127P1030-20; ComponentLink1Description: Manufacturer Link; ComponentLink1URL: http://www.atmel.com/products/Config; ComponentLink2Description: Atmel.com Home; ComponentLink2URL: http://www.atmel.com
footprint 20S_N (SOIC, 20-Leads, Body 12.8x7.5mm, Pitch 1.27mm, IPC Medium Density)
footprint 20S_L (SOIC, 20-Leads, Body 12.8x7.5mm, Pitch 1.27mm, IPC High Density)
footprint 20S_M (SOIC, 20-Leads, Body 12.8x7.5mm, Pitch 1.27mm, IPC Low Density)
pins: 1 NC, 2 DATA (io), 3 NC, 4 CLK (in), 5 NC, 6 (WP) RESET/~{OE} (in), 7 NC, 8 ~{CE} (in), 9 NC, 10 GND (power), 11 NC, 12 NC, 13 NC, 14 ~{CEO2} (A2) (io), 15 NC, 16 NC, 17 ~{SER_EN} (in), 18 NC, 19 NC, 20 VCC (power)

## AT17C128A-10JC
designator U?
FPGA Configuration EEPROM 128K Memory; ComponentAvailability: Not Recommended for New Design; Published: 17-Jul-2002; LatestRevisionDate: 13-Apr-2006; LatestRevisionNote: IPC-7351 Footprint Added.; DatasheetVersion: Rev. 0996B-10/99; PackageVersion: Aug-1999; PackageReference: 20J; Publisher: Altium Limited; PackageDescription: 20-Pin Leaded Chip Carrier 1.27 mm Pitch; Supplier 1: Digi-Key; Supplier Part Number 1: AT17C128A-10JC-ND; Code_JEDEC: MS-018-AA; Code_IPC: PLCC-20; ComponentLink1Description: Manufacturer Link; ComponentLink1URL: http://www.atmel.com/products/Config; ComponentLink2Description: Atmel.com Home; ComponentLink2URL: http://www.atmel.com
footprint 20J_N (Leaded Chip Carrier, 20-Leads, Body 9x9mm, Pitch 1.27mm, IPC Medium Density)
footprint 20J_L (Leaded Chip Carrier, 20-Leads, Body 9x9mm, Pitch 1.27mm, IPC High Density)
footprint 20J_M (Leaded Chip Carrier, 20-Leads, Body 9x9mm, Pitch 1.27mm, IPC Low Density)
pins: 1 NC, 2 DATA (io), 3 NC, 4 DCLK (in), 5 NC, 6 NC, 7 NC, 8 (WP) OE (in), 9 nCS (in), 10 GND (power), 11 NC, 12 (A2)nCASC (io), 13 NC, 14 NC, 15 NC, 16 NC, 17 NC, 18 ~{SER_EN} (in), 19 NC, 20 VCC (power)

## AT17C128A-10JI
designator U?
FPGA Configuration EEPROM 128K Memory; ComponentAvailability: Not Recommended for New Design; Published: 17-Jul-2002; LatestRevisionDate: 13-Apr-2006; LatestRevisionNote: IPC-7351 Footprint Added.; DatasheetVersion: Rev. 0996B-10/99; PackageVersion: Aug-1999; PackageReference: 20J; Publisher: Altium Limited; PackageDescription: 20-Pin Leaded Chip Carrier 1.27 mm Pitch; Code_JEDEC: MS-018-AA; Code_IPC: PLCC-20; ComponentLink1Description: Manufacturer Link; ComponentLink1URL: http://www.atmel.com/products/Config; ComponentLink2Description: Atmel.com Home; ComponentLink2URL: http://www.atmel.com
footprint 20J_N (Leaded Chip Carrier, 20-Leads, Body 9x9mm, Pitch 1.27mm, IPC Medium Density)
footprint 20J_L (Leaded Chip Carrier, 20-Leads, Body 9x9mm, Pitch 1.27mm, IPC High Density)
footprint 20J_M (Leaded Chip Carrier, 20-Leads, Body 9x9mm, Pitch 1.27mm, IPC Low Density)
pins: 1 NC, 2 DATA (io), 3 NC, 4 DCLK (in), 5 NC, 6 NC, 7 NC, 8 (WP) OE (in), 9 nCS (in), 10 GND (power), 11 NC, 12 (A2)nCASC (io), 13 NC, 14 NC, 15 NC, 16 NC, 17 NC, 18 ~{SER_EN} (in), 19 NC, 20 VCC (power)

## AT17C256-10JC
designator U?
FPGA Configuration EEPROM 256K Memory; ComponentAvailability: Not Recommended for New Design; Published: 17-Jul-2002; LatestRevisionDate: 13-Apr-2006; LatestRevisionNote: IPC-7351 Footprint Added.; DatasheetVersion: Rev. 1636B-05/00; PackageVersion: Aug-1999; PackageReference: 20J; Publisher: Altium Limited; PackageDescription: 20-Pin Leaded Chip Carrier 1.27 mm Pitch; Supplier 1: Digi-Key; Supplier Part Number 1: AT17C256-10JC-ND; Supplier 2: Mouser; Supplier Part Number 2: 556-AT17C25610JC; Code_JEDEC: MS-018-AA; Code_IPC: PLCC-20; ComponentLink1Description: Manufacturer Link; ComponentLink1URL: http://www.atmel.com/products/Config; ComponentLink2Description: Atmel.com Home; ComponentLink2URL: http://www.atmel.com
footprint 20J_N (Leaded Chip Carrier, 20-Leads, Body 9x9mm, Pitch 1.27mm, IPC Medium Density)
footprint 20J_L (Leaded Chip Carrier, 20-Leads, Body 9x9mm, Pitch 1.27mm, IPC High Density)
footprint 20J_M (Leaded Chip Carrier, 20-Leads, Body 9x9mm, Pitch 1.27mm, IPC Low Density)
pins: 1 NC, 2 DATA (io), 3 NC, 4 CLK (in), 5 NC, 6 (WP) RESET/~{OE} (in), 7 NC, 8 ~{CE} (in), 9 NC, 10 GND (power), 11 NC, 12 NC, 13 NC, 14 ~{CEO2} (A2) (io), 15 NC, 16 NC, 17 ~{SER_EN} (in), 18 NC, 19 NC, 20 VCC (power)

## AT17C256-10JI
designator U?
FPGA Configuration EEPROM 256K Memory; ComponentAvailability: Not Recommended for New Design; Published: 17-Jul-2002; LatestRevisionDate: 13-Apr-2006; LatestRevisionNote: IPC-7351 Footprint Added.; DatasheetVersion: Rev. 1636B-05/00; PackageVersion: Aug-1999; PackageReference: 20J; Publisher: Altium Limited; PackageDescription: 20-Pin Leaded Chip Carrier 1.27 mm Pitch; Supplier 1: Digi-Key; Supplier Part Number 1: AT17C256-10JI-ND; Code_JEDEC: MS-018-AA; Code_IPC: PLCC-20; ComponentLink1Description: Manufacturer Link; ComponentLink1URL: http://www.atmel.com/products/Config; ComponentLink2Description: Atmel.com Home; ComponentLink2URL: http://www.atmel.com
footprint 20J_N (Leaded Chip Carrier, 20-Leads, Body 9x9mm, Pitch 1.27mm, IPC Medium Density)
footprint 20J_L (Leaded Chip Carrier, 20-Leads, Body 9x9mm, Pitch 1.27mm, IPC High Density)
footprint 20J_M (Leaded Chip Carrier, 20-Leads, Body 9x9mm, Pitch 1.27mm, IPC Low Density)
pins: 1 NC, 2 DATA (io), 3 NC, 4 CLK (in), 5 NC, 6 (WP) RESET/~{OE} (in), 7 NC, 8 ~{CE} (in), 9 NC, 10 GND (power), 11 NC, 12 NC, 13 NC, 14 ~{CEO2} (A2) (io), 15 NC, 16 NC, 17 ~{SER_EN} (in), 18 NC, 19 NC, 20 VCC (power)

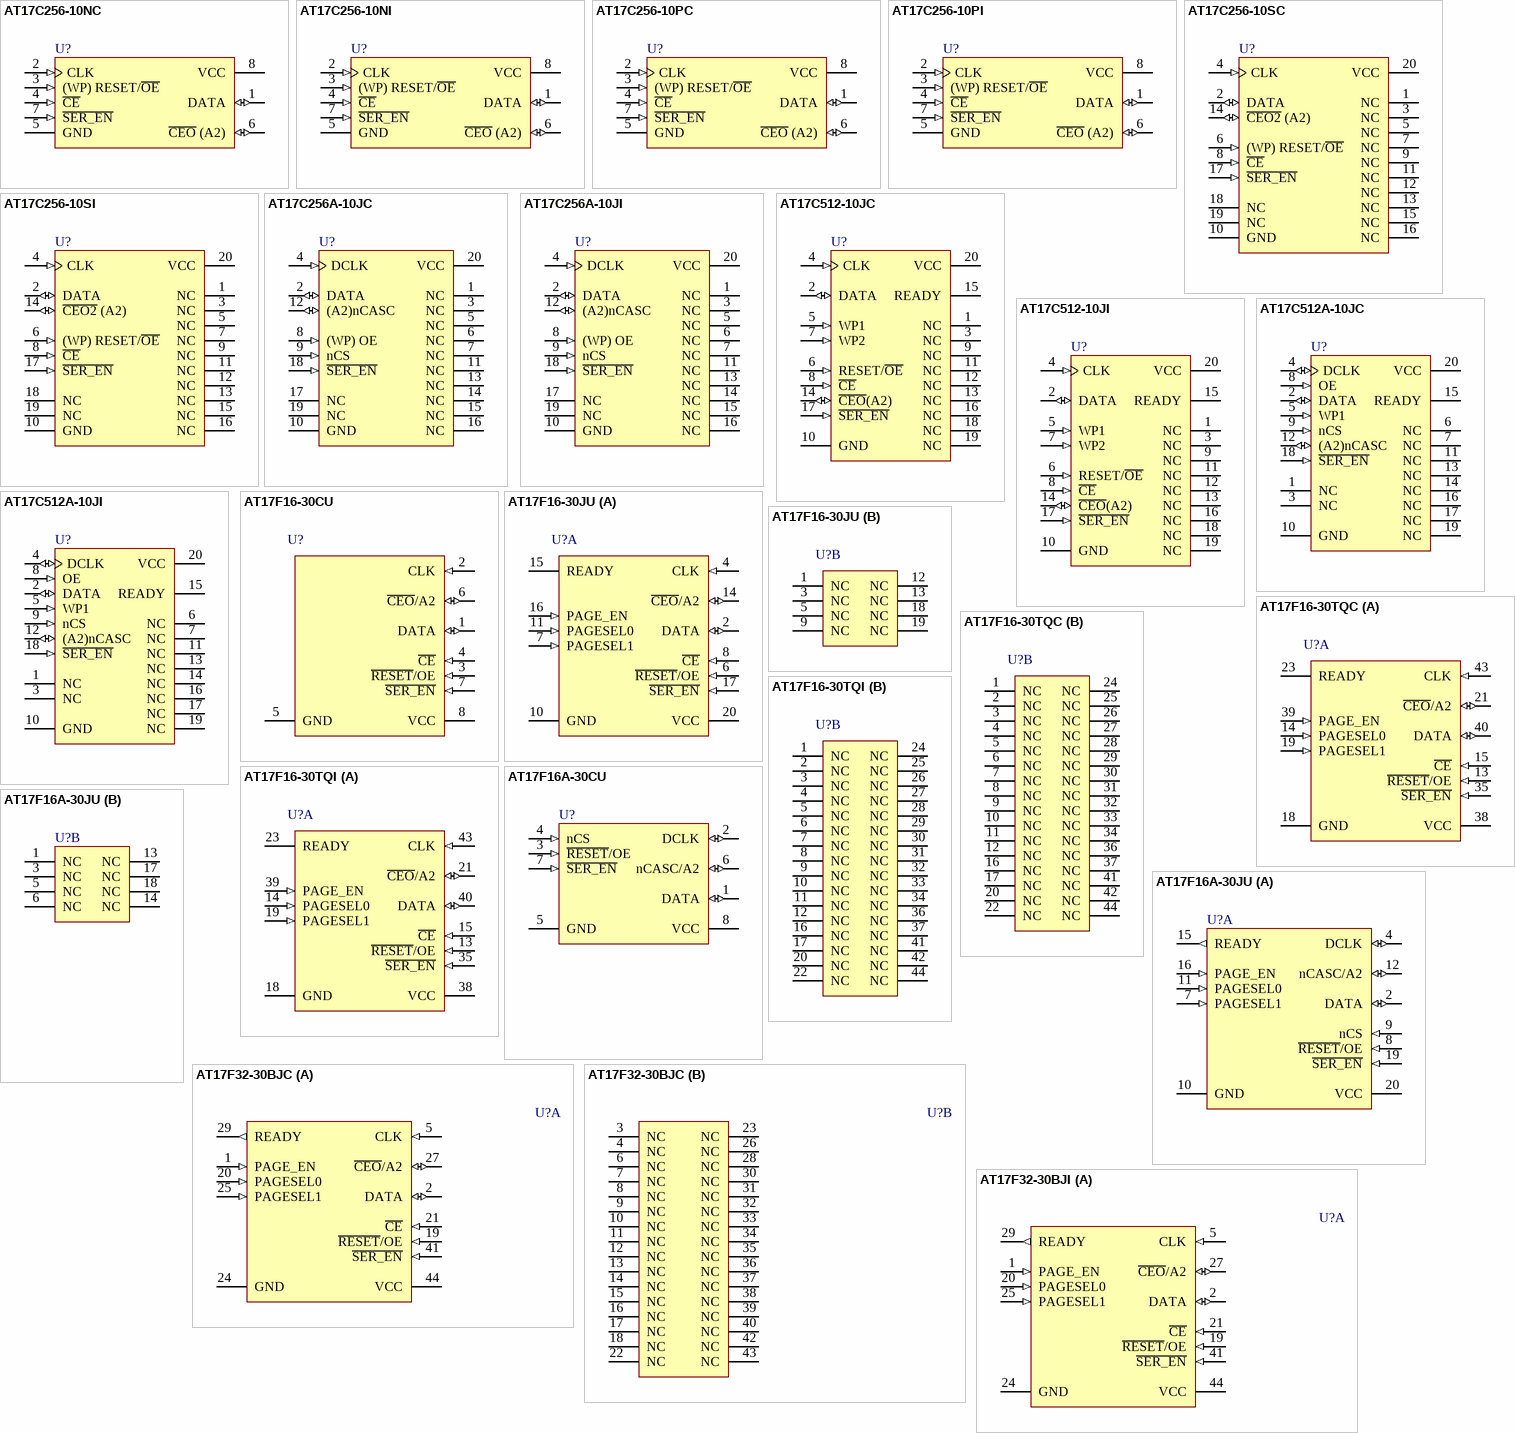
[diagram p1: symbols AT17C256-10NC to AT17F32-30BJI]

## AT17C256-10NC
designator U?
FPGA Configuration EEPROM 256K Memory; ComponentAvailability: Not Recommended for New Design; Published: 17-Jul-2002; LatestRevisionDate: 13-Apr-2006; LatestRevisionNote: IPC-7351 Footprint Added.; DatasheetVersion: Rev. 1636B-05/00; PackageVersion: revC, Mar-2005; PackageReference: 8S1; Publisher: Altium Limited; PackageDescription: 8-Lead (0.150" Wide Body), Plastic Gull Wing Small Outline (JEDEC SOIC); Supplier 1: Digi-Key; Supplier Part Number 1: AT17C256-10NC-ND; Supplier 2: Mouser; Supplier Part Number 2: 556-AT17C256-10NC; Code_JEDEC: MS-012-AA; Code_IPC: SOIC127P600-8; ComponentLink1Description: Manufacturer Link; ComponentLink1URL: http://www.atmel.com/products/Config; ComponentLink2Description: Atmel.com Home; ComponentLink2URL: http://www.atmel.com
footprint 8S1_N (SOIC, 8-Leads, Body 4.9x3.9mm, Pitch 1.27mm, IPC Medium Density)
footprint 8S1_L (SOIC, 8-Leads, Body 4.9x3.9mm, Pitch 1.27mm, IPC High Density)
footprint 8S1_M (SOIC, 8-Leads, Body 4.9x3.9mm, Pitch 1.27mm, IPC Low Density)
pins: 1 DATA (io), 2 CLK (in), 3 (WP) RESET/~{OE} (in), 4 ~{CE} (in), 5 GND (power), 6 ~{CEO} (A2) (io), 7 ~{SER_EN} (in), 8 VCC (power)

## AT17C256-10NI
designator U?
FPGA Configuration EEPROM 256K Memory; ComponentAvailability: Not Recommended for New Design; Published: 17-Jul-2002; LatestRevisionDate: 13-Apr-2006; LatestRevisionNote: IPC-7351 Footprint Added.; DatasheetVersion: Rev. 1636B-05/00; PackageVersion: revC, Mar-2005; PackageReference: 8S1; Publisher: Altium Limited; PackageDescription: 8-Lead (0.150" Wide Body), Plastic Gull Wing Small Outline (JEDEC SOIC); Supplier 1: Digi-Key; Supplier Part Number 1: AT17C256-10NI-ND; Supplier 2: Mouser; Supplier Part Number 2: 556-AT17C25610NI; Code_JEDEC: MS-012-AA; Code_IPC: SOIC127P600-8; ComponentLink1Description: Manufacturer Link; ComponentLink1URL: http://www.atmel.com/products/Config; ComponentLink2Description: Atmel.com Home; ComponentLink2URL: http://www.atmel.com
footprint 8S1_N (SOIC, 8-Leads, Body 4.9x3.9mm, Pitch 1.27mm, IPC Medium Density)
footprint 8S1_L (SOIC, 8-Leads, Body 4.9x3.9mm, Pitch 1.27mm, IPC High Density)
footprint 8S1_M (SOIC, 8-Leads, Body 4.9x3.9mm, Pitch 1.27mm, IPC Low Density)
pins: 1 DATA (io), 2 CLK (in), 3 (WP) RESET/~{OE} (in), 4 ~{CE} (in), 5 GND (power), 6 ~{CEO} (A2) (io), 7 ~{SER_EN} (in), 8 VCC (power)

## AT17C256-10PC
designator U?
FPGA Configuration EEPROM 256K Memory; ComponentAvailability: Not Recommended for New Design; Published: 17-Jul-2002; LatestRevisionDate: 04-Mar-2005; LatestRevisionNote: Stylized 3D Model Added.; DatasheetVersion: Rev. 1636B-05/00; PackageVersion: revB, Jan-2002; PackageReference: 8P3; Publisher: Altium Limited; PackageDescription: 8-Lead, 0.300" Wide Body, Plastic Dual In-Line Package (PDIP); Supplier 1: Digi-Key; Supplier Part Number 1: AT17C256-10PC-ND; Supplier 2: Mouser; Supplier Part Number 2: 556-AT17C25610PC; Code_JEDEC: MS-001-BA; ComponentLink1Description: Manufacturer Link; ComponentLink1URL: http://www.atmel.com/products/Config; ComponentLink2Description: Atmel.com Home; ComponentLink2URL: http://www.atmel.com
footprint 8P3 (DIP, 8-Leads, Row Spacing 7.62mm, Pitch 2.54mm, Body 9.59x6.61mm)
pins: 1 DATA (io), 2 CLK (in), 3 (WP) RESET/~{OE} (in), 4 ~{CE} (in), 5 GND (power), 6 ~{CEO} (A2) (io), 7 ~{SER_EN} (in), 8 VCC (power)

## AT17C256-10PI
designator U?
FPGA Configuration EEPROM 256K Memory; ComponentAvailability: Not Recommended for New Design; Published: 17-Jul-2002; LatestRevisionDate: 04-Mar-2005; LatestRevisionNote: Stylized 3D Model Added.; DatasheetVersion: Rev. 1636B-05/00; PackageVersion: revB, Jan-2002; PackageReference: 8P3; Publisher: Altium Limited; PackageDescription: 8-Lead, 0.300" Wide Body, Plastic Dual In-Line Package (PDIP); Supplier 1: Digi-Key; Supplier Part Number 1: AT17C256-10PI-ND; Code_JEDEC: MS-001-BA; ComponentLink1Description: Manufacturer Link; ComponentLink1URL: http://www.atmel.com/products/Config; ComponentLink2Description: Atmel.com Home; ComponentLink2URL: http://www.atmel.com
footprint 8P3 (DIP, 8-Leads, Row Spacing 7.62mm, Pitch 2.54mm, Body 9.59x6.61mm)
pins: 1 DATA (io), 2 CLK (in), 3 (WP) RESET/~{OE} (in), 4 ~{CE} (in), 5 GND (power), 6 ~{CEO} (A2) (io), 7 ~{SER_EN} (in), 8 VCC (power)

## AT17C256-10SC
designator U?
FPGA Configuration EEPROM 256K Memory; ComponentAvailability: Not Recommended for New Design; Published: 17-Jul-2002; LatestRevisionDate: 13-Apr-2006; LatestRevisionNote: IPC-7351 Footprint Added.; DatasheetVersion: Rev. 1636B-05/00; PackageVersion: revA, Jan-2002; PackageReference: 20S; Publisher: Altium Limited; PackageDescription: 20-lead, 0.300" Wide Body, Plastic Gull Wing Small Outline Package (SOIC); Supplier 1: Digi-Key; Supplier Part Number 1: AT17C256-10SC-ND; Code_JEDEC: MS-013-AC; Code_IPC: SOIC127P1030-20; ComponentLink1Description: Manufacturer Link; ComponentLink1URL: http://www.atmel.com/products/Config; ComponentLink2Description: Atmel.com Home; ComponentLink2URL: http://www.atmel.com
footprint 20S_N (SOIC, 20-Leads, Body 12.8x7.5mm, Pitch 1.27mm, IPC Medium Density)
footprint 20S_L (SOIC, 20-Leads, Body 12.8x7.5mm, Pitch 1.27mm, IPC High Density)
footprint 20S_M (SOIC, 20-Leads, Body 12.8x7.5mm, Pitch 1.27mm, IPC Low Density)
pins: 1 NC, 2 DATA (io), 3 NC, 4 CLK (in), 5 NC, 6 (WP) RESET/~{OE} (in), 7 NC, 8 ~{CE} (in), 9 NC, 10 GND (power), 11 NC, 12 NC, 13 NC, 14 ~{CEO2} (A2) (io), 15 NC, 16 NC, 17 ~{SER_EN} (in), 18 NC, 19 NC, 20 VCC (power)

## AT17C256-10SI
designator U?
FPGA Configuration EEPROM 256K Memory; ComponentAvailability: Not Recommended for New Design; Published: 17-Jul-2002; LatestRevisionDate: 13-Apr-2006; LatestRevisionNote: IPC-7351 Footprint Added.; DatasheetVersion: Rev. 1636B-05/00; PackageVersion: revA, Jan-2002; PackageReference: 20S; Publisher: Altium Limited; PackageDescription: 20-lead, 0.300" Wide Body, Plastic Gull Wing Small Outline Package (SOIC); Supplier 1: Digi-Key; Supplier Part Number 1: AT17C256-10SI-ND; Code_JEDEC: MS-013-AC; Code_IPC: SOIC127P1030-20; ComponentLink1Description: Manufacturer Link; ComponentLink1URL: http://www.atmel.com/products/Config; ComponentLink2Description: Atmel.com Home; ComponentLink2URL: http://www.atmel.com
footprint 20S_N (SOIC, 20-Leads, Body 12.8x7.5mm, Pitch 1.27mm, IPC Medium Density)
footprint 20S_L (SOIC, 20-Leads, Body 12.8x7.5mm, Pitch 1.27mm, IPC High Density)
footprint 20S_M (SOIC, 20-Leads, Body 12.8x7.5mm, Pitch 1.27mm, IPC Low Density)
pins: 1 NC, 2 DATA (io), 3 NC, 4 CLK (in), 5 NC, 6 (WP) RESET/~{OE} (in), 7 NC, 8 ~{CE} (in), 9 NC, 10 GND (power), 11 NC, 12 NC, 13 NC, 14 ~{CEO2} (A2) (io), 15 NC, 16 NC, 17 ~{SER_EN} (in), 18 NC, 19 NC, 20 VCC (power)

## AT17C256A-10JC
designator U?
FPGA Configuration EEPROM 256K Memory; ComponentAvailability: Not Recommended for New Design; Published: 17-Jul-2002; LatestRevisionDate: 13-Apr-2006; LatestRevisionNote: IPC-7351 Footprint Added.; DatasheetVersion: Rev. 0996B-10/99; PackageVersion: Aug-1999; PackageReference: 20J; Publisher: Altium Limited; PackageDescription: 20-Pin Leaded Chip Carrier 1.27 mm Pitch; Supplier 1: Digi-Key; Supplier Part Number 1: AT17C256A-10JC-ND; Code_JEDEC: MS-018-AA; Code_IPC: PLCC-20; ComponentLink1Description: Manufacturer Link; ComponentLink1URL: http://www.atmel.com/products/Config; ComponentLink2Description: Atmel.com Home; ComponentLink2URL: http://www.atmel.com
footprint 20J_N (Leaded Chip Carrier, 20-Leads, Body 9x9mm, Pitch 1.27mm, IPC Medium Density)
footprint 20J_L (Leaded Chip Carrier, 20-Leads, Body 9x9mm, Pitch 1.27mm, IPC High Density)
footprint 20J_M (Leaded Chip Carrier, 20-Leads, Body 9x9mm, Pitch 1.27mm, IPC Low Density)
pins: 1 NC, 2 DATA (io), 3 NC, 4 DCLK (in), 5 NC, 6 NC, 7 NC, 8 (WP) OE (in), 9 nCS (in), 10 GND (power), 11 NC, 12 (A2)nCASC (io), 13 NC, 14 NC, 15 NC, 16 NC, 17 NC, 18 ~{SER_EN} (in), 19 NC, 20 VCC (power)

## AT17C256A-10JI
designator U?
FPGA Configuration EEPROM 256K Memory; ComponentAvailability: Not Recommended for New Design; Published: 17-Jul-2002; LatestRevisionDate: 13-Apr-2006; LatestRevisionNote: IPC-7351 Footprint Added.; DatasheetVersion: Rev. 0996B-10/99; PackageVersion: Aug-1999; PackageReference: 20J; Publisher: Altium Limited; PackageDescription: 20-Pin Leaded Chip Carrier 1.27 mm Pitch; Supplier 1: Digi-Key; Supplier Part Number 1: AT17C256A-10JI-ND; Code_JEDEC: MS-018-AA; Code_IPC: PLCC-20; ComponentLink1Description: Manufacturer Link; ComponentLink1URL: http://www.atmel.com/products/Config; ComponentLink2Description: Atmel.com Home; ComponentLink2URL: http://www.atmel.com
footprint 20J_N (Leaded Chip Carrier, 20-Leads, Body 9x9mm, Pitch 1.27mm, IPC Medium Density)
footprint 20J_L (Leaded Chip Carrier, 20-Leads, Body 9x9mm, Pitch 1.27mm, IPC High Density)
footprint 20J_M (Leaded Chip Carrier, 20-Leads, Body 9x9mm, Pitch 1.27mm, IPC Low Density)
pins: 1 NC, 2 DATA (io), 3 NC, 4 DCLK (in), 5 NC, 6 NC, 7 NC, 8 (WP) OE (in), 9 nCS (in), 10 GND (power), 11 NC, 12 (A2)nCASC (io), 13 NC, 14 NC, 15 NC, 16 NC, 17 NC, 18 ~{SER_EN} (in), 19 NC, 20 VCC (power)

## AT17C512-10JC
designator U?
FPGA Configuration EEPROM 512K Memory; ComponentAvailability: Not Recommended for New Design; Published: 17-Jul-2002; LatestRevisionDate: 13-Apr-2006; LatestRevisionNote: IPC-7351 Footprint Added.; DatasheetVersion: Rev. 0944B-07/99; PackageVersion: Aug-1999; PackageReference: 20J; Publisher: Altium Limited; PackageDescription: 20-Pin Leaded Chip Carrier 1.27 mm Pitch; Supplier 1: Digi-Key; Supplier Part Number 1: AT17C512-10JC-ND; Code_JEDEC: MS-018-AA; Code_IPC: PLCC-20; ComponentLink1Description: Manufacturer Link; ComponentLink1URL: http://www.atmel.com/products/Config; ComponentLink2Description: Atmel.com Home; ComponentLink2URL: http://www.atmel.com
footprint 20J_N (Leaded Chip Carrier, 20-Leads, Body 9x9mm, Pitch 1.27mm, IPC Medium Density)
footprint 20J_L (Leaded Chip Carrier, 20-Leads, Body 9x9mm, Pitch 1.27mm, IPC High Density)
footprint 20J_M (Leaded Chip Carrier, 20-Leads, Body 9x9mm, Pitch 1.27mm, IPC Low Density)
pins: 1 NC, 2 DATA (io), 3 NC, 4 CLK (in), 5 WP1 (in), 6 RESET/~{OE} (in), 7 WP2 (in), 8 ~{CE} (in), 9 NC, 10 GND (power), 11 NC, 12 NC, 13 NC, 14 ~{CEO}(A2) (io), 15 READY (oc), 16 NC, 17 ~{SER_EN} (in), 18 NC, 19 NC, 20 VCC (power)

## AT17C512-10JI
designator U?
FPGA Configuration EEPROM 512K Memory; ComponentAvailability: Not Recommended for New Design; Published: 17-Jul-2002; LatestRevisionDate: 13-Apr-2006; LatestRevisionNote: IPC-7351 Footprint Added.; DatasheetVersion: Rev. 0944B-07/99; PackageVersion: Aug-1999; PackageReference: 20J; Publisher: Altium Limited; PackageDescription: 20-Pin Leaded Chip Carrier 1.27 mm Pitch; Supplier 1: Digi-Key; Supplier Part Number 1: AT17C512-10JI-ND; Code_JEDEC: MS-018-AA; Code_IPC: PLCC-20; ComponentLink1Description: Manufacturer Link; ComponentLink1URL: http://www.atmel.com/products/Config; ComponentLink2Description: Atmel.com Home; ComponentLink2URL: http://www.atmel.com
footprint 20J_N (Leaded Chip Carrier, 20-Leads, Body 9x9mm, Pitch 1.27mm, IPC Medium Density)
footprint 20J_L (Leaded Chip Carrier, 20-Leads, Body 9x9mm, Pitch 1.27mm, IPC High Density)
footprint 20J_M (Leaded Chip Carrier, 20-Leads, Body 9x9mm, Pitch 1.27mm, IPC Low Density)
pins: 1 NC, 2 DATA (io), 3 NC, 4 CLK (in), 5 WP1 (in), 6 RESET/~{OE} (in), 7 WP2 (in), 8 ~{CE} (in), 9 NC, 10 GND (power), 11 NC, 12 NC, 13 NC, 14 ~{CEO}(A2) (io), 15 READY (oc), 16 NC, 17 ~{SER_EN} (in), 18 NC, 19 NC, 20 VCC (power)

## AT17C512A-10JC
designator U?
FPGA Configuration EEPROM 512K Memory; ComponentAvailability: Not Recommended for New Design; Published: 17-Jul-2002; LatestRevisionDate: 13-Apr-2006; LatestRevisionNote: IPC-7351 Footprint Added.; DatasheetVersion: Rev. 0974B-07/99; PackageVersion: Aug-1999; PackageReference: 20J; Publisher: Altium Limited; PackageDescription: 20-Pin Leaded Chip Carrier 1.27 mm Pitch; Supplier 1: Digi-Key; Supplier Part Number 1: AT17C512A-10JC-ND; Code_JEDEC: MS-018-AA; Code_IPC: PLCC-20; ComponentLink1Description: Manufacturer Link; ComponentLink1URL: http://www.atmel.com/products/Config; ComponentLink2Description: Atmel.com Home; ComponentLink2URL: http://www.atmel.com
footprint 20J_N (Leaded Chip Carrier, 20-Leads, Body 9x9mm, Pitch 1.27mm, IPC Medium Density)
footprint 20J_L (Leaded Chip Carrier, 20-Leads, Body 9x9mm, Pitch 1.27mm, IPC High Density)
footprint 20J_M (Leaded Chip Carrier, 20-Leads, Body 9x9mm, Pitch 1.27mm, IPC Low Density)
pins: 1 NC, 2 DATA (io), 3 NC, 4 DCLK (io), 5 WP1 (in), 6 NC, 7 NC, 8 OE (in), 9 nCS (in), 10 GND (power), 11 NC, 12 (A2)nCASC (io), 13 NC, 14 NC, 15 READY (oc), 16 NC, 17 NC, 18 ~{SER_EN} (in), 19 NC, 20 VCC (power)

## AT17C512A-10JI
designator U?
FPGA Configuration EEPROM  512K Memory; ComponentAvailability: Not Recommended for New Design; Published: 17-Jul-2002; LatestRevisionDate: 13-Apr-2006; LatestRevisionNote: IPC-7351 Footprint Added.; DatasheetVersion: Rev. 0974B-07/99; PackageVersion: Aug-1999; PackageReference: 20J; Publisher: Altium Limited; PackageDescription: 20-Pin Leaded Chip Carrier 1.27 mm Pitch; Supplier 1: Digi-Key; Supplier Part Number 1: AT17C512A-10JI-ND; Code_JEDEC: MS-018-AA; Code_IPC: PLCC-20; ComponentLink1Description: Manufacturer Link; ComponentLink1URL: http://www.atmel.com/products/Config; ComponentLink2Description: Atmel.com Home; ComponentLink2URL: http://www.atmel.com
footprint 20J_N (Leaded Chip Carrier, 20-Leads, Body 9x9mm, Pitch 1.27mm, IPC Medium Density)
footprint 20J_L (Leaded Chip Carrier, 20-Leads, Body 9x9mm, Pitch 1.27mm, IPC High Density)
footprint 20J_M (Leaded Chip Carrier, 20-Leads, Body 9x9mm, Pitch 1.27mm, IPC Low Density)
pins: 1 NC, 2 DATA (io), 3 NC, 4 DCLK (io), 5 WP1 (in), 6 NC, 7 NC, 8 OE (in), 9 nCS (in), 10 GND (power), 11 NC, 12 (A2)nCASC (io), 13 NC, 14 NC, 15 READY (oc), 16 NC, 17 NC, 18 ~{SER_EN} (in), 19 NC, 20 VCC (power)